# EAGLE library part TPS61090 (library NewPart)
TI TPS61090 Boost Regulator
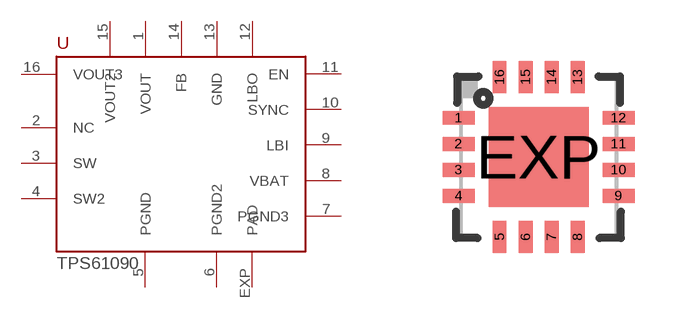
[diagram p2: symbol with the pads of TPS61090; footprint TPS61090]

Designator prefix U

## TPS61090  [TPS61090]
1  VOUT
2  NC
3  SW
4  SW2
5  PGND
6  PGND2
7  PGND3
8  VBAT
9  LBI
10  SYNC
11  EN
12  LBO
13  GND
14  FB
15  VOUT2
16  VOUT3
EXP  PAD

## Footprint TPS61090 (pad centres in mm)
smd 0.8 x 0.35: 1 -2,0.975; 2 -2,0.325; 3 -2,-0.325; 4 -2,-0.975; 9 2,-0.975; 10 2,-0.325; 11 2,0.325; 12 2,0.975
smd 0.35 x 0.8: 5 -0.975,-2; 6 -0.325,-2; 7 0.325,-2; 8 0.975,-2; 13 0.975,2; 14 0.325,2; 15 -0.325,2; 16 -0.975,2
smd 2.5 x 2.5: EXP 0,0